# Altium footprint library ALTIUM_{TEX139}_HV-1PH-DCAC-R3.PcbLib: 57 footprints (part 3 of 4)
Each footprint in its own frame and in the unit in brackets; x right, y up, seen from the top. Pads: shape width x height; smd on the part's side, far side on the other; paste and mask are expansions set on the pad; w line width, h text height; cw(c..) or ccw(c..) is an arc to the next point about the centre after c.
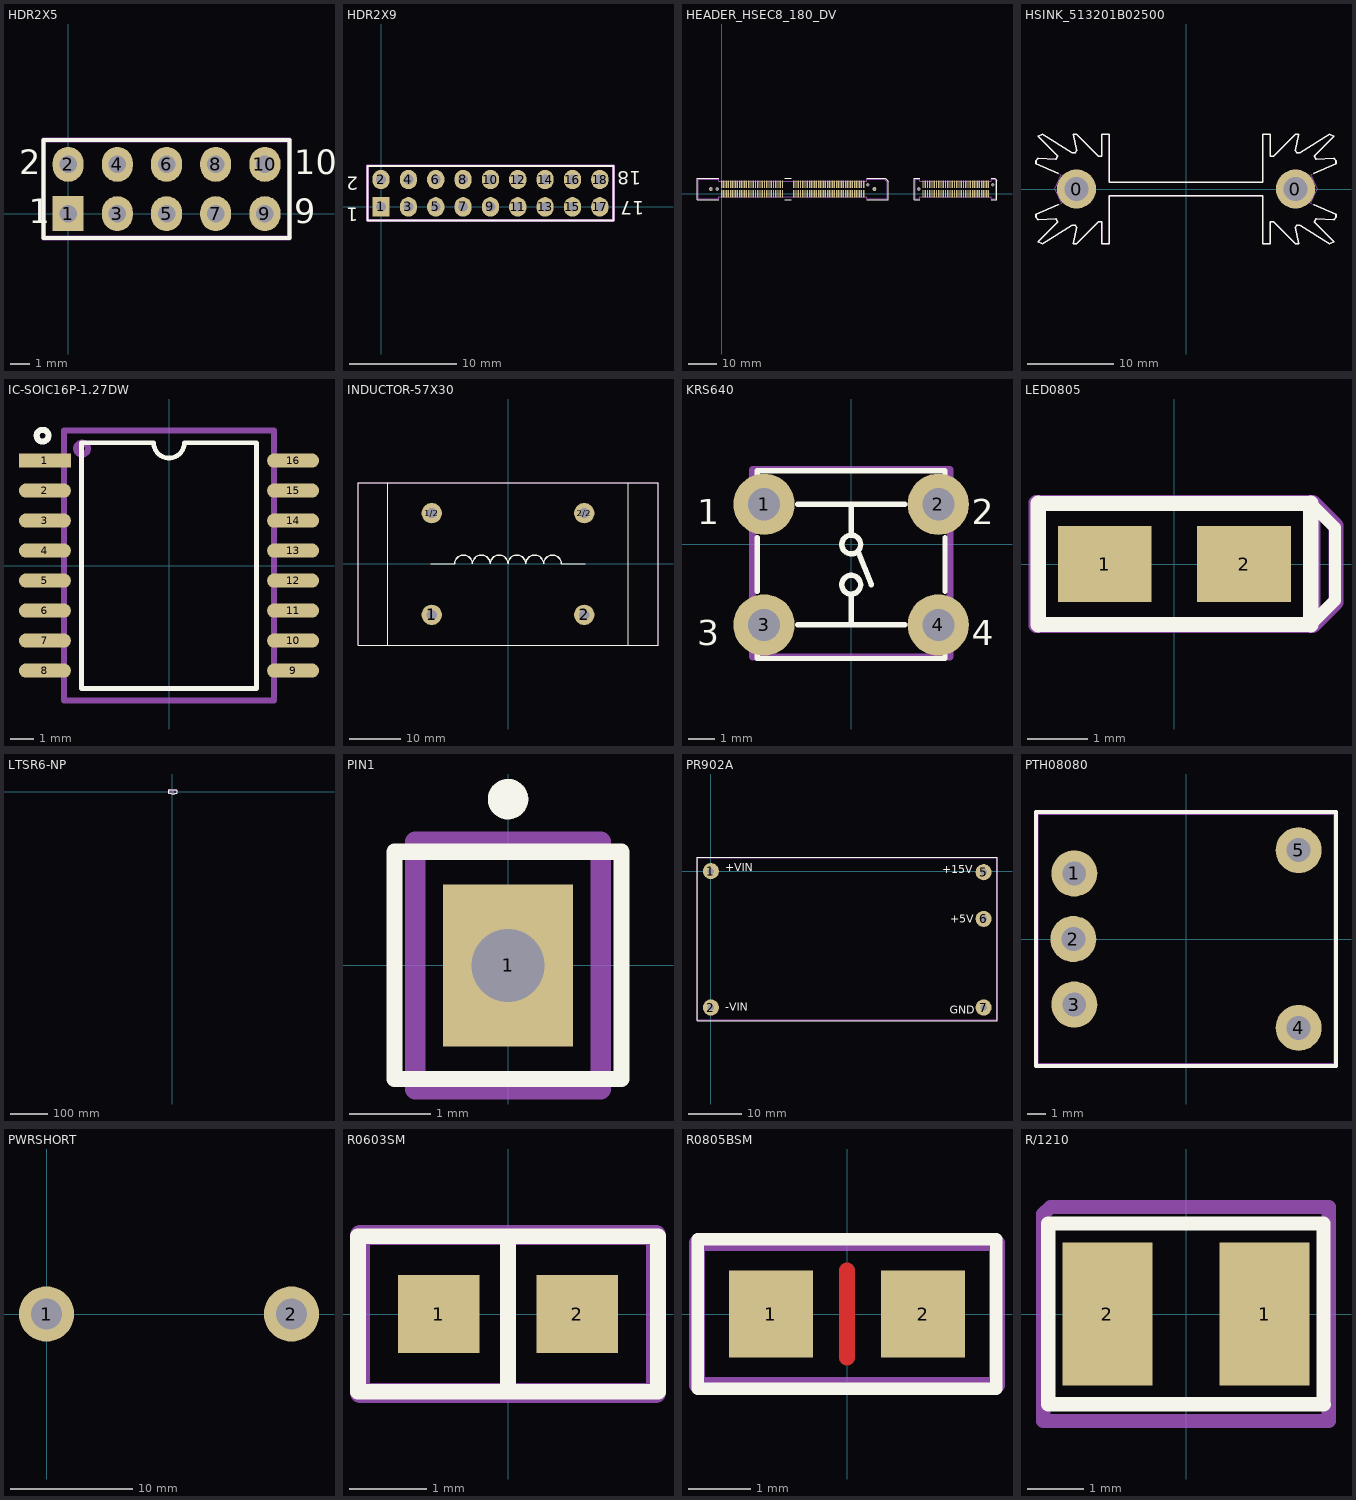
[diagram p2: the footprints below, top view; thin cyan lines are the x and y axes]

## HDR2X5 [mm]
pads (10):
  rect 1.6x1.8 hole 0.9: 1(0,0)
  oval 1.6x1.8 hole 0.9: 2(0,2.54) 3(2.54,0) 4(2.54,2.54) 5(5.08,0) 6(5.08,2.54) 7(7.62,0) 8(7.62,2.54) 9(10.16,0) 10(10.16,2.54)
Top Overlay:
  lines w0.2: -1.27,-1.27 -1.27,3.81 11.43,3.81 11.43,-1.27 -1.27,-1.27
  text "2" at -2.54,2.032 h1.27
  text "1" at -2.032,-0.508 h1.27
  text "9" at 11.684,-0.508 h1.27
  text "10" at 11.684,2.032 h1.27
Mechanical 5:
  lines w0.254: -1.27,-1.27 -1.27,3.81 11.43,3.81 11.43,-1.27 -1.27,-1.27
  text ".Designator" at 3.048,0.762 h1.52

## HDR2X9 [mm]
pads (18):
  rect 1.6x1.8 hole 0.9: 1(0,0)
  oval 1.6x1.8 hole 0.9: 2(0,2.54) 3(2.54,0) 4(2.54,2.54) 5(5.08,0) 6(5.08,2.54) 7(7.62,0) 8(7.62,2.54) 9(10.16,0) 10(10.16,2.54) 11(12.7,0) 12(12.7,2.54) 13(15.24,0) 14(15.24,2.54) 15(17.78,0) 16(17.78,2.54) 17(20.32,0) 18(20.32,2.54)
Top Overlay:
  lines w0.2: -1.27,-1.27 21.59,-1.27 21.59,3.81 -1.27,3.81 -1.27,-1.27
  text "18" at 24.157,3.319 h1.27
  text "17" at 24.457,0.519 h1.27
  text "1" at -2.143,-0.081 h1.27
  text "2" at -2.143,2.819 h1.27
Mechanical 5:
  lines w0.254: -1.27,-1.27 -1.27,3.81 21.59,3.81 21.59,-1.27 -1.27,-1.27
  text ".Designator" at 11.027,2.088 h1.52

## HEADER_HSEC8_180_DV [mm]
pads (186):
  rect 0.5x2.724 smd mask+0.076: 1(0,0) 2(0,3.4) 3(0.8,0) 4(0.8,3.4) 5(1.6,0) 6(1.6,3.4) 7(2.4,0) 8(2.4,3.4) 9(3.2,0) 10(3.2,3.4) 11(4,0) 12(4,3.4) 13(4.8,0) 14(4.8,3.4) 15(5.6,0) 16(5.6,3.4) 17(6.4,0) 18(6.4,3.4) 19(7.2,0) 20(7.2,3.4) 21(8,0) 22(8,3.4) 23(8.8,0) 24(8.8,3.4) 25(9.6,0) 26(9.6,3.4) 27(10.4,0) 28(10.4,3.4) 29(11.2,0) 30(11.2,3.4) 31(12,0) 32(12,3.4) 33(12.8,0) 34(12.8,3.4) 35(13.6,0) 36(13.6,3.4) 37(14.4,0) 38(14.4,3.4) 39(15.2,0) 40(15.2,3.4) 41(16,0) 42(16,3.4) 43(16.8,0) 44(16.8,3.4) 45(17.6,0) 46(17.6,3.4) 47(18.4,0) 48(18.4,3.4) 49(19.2,0) 50(19.2,3.4) 51(20,0) 52(20,3.4) 53(20.8,0) 54(20.8,3.4) 55(21.6,0) 56(21.6,3.4) 57(25.6,0) 58(25.6,3.4) 59(26.4,0) 60(26.4,3.4) 61(27.2,0) 62(27.2,3.4) 63(28,0) 64(28,3.4) 65(28.8,0) 66(28.8,3.4) 67(29.6,0) 68(29.6,3.4) 69(30.4,0) 70(30.4,3.4) 71(31.2,0) 72(31.2,3.4) 73(32,0) 74(32,3.4) 75(32.8,0) 76(32.8,3.4) 77(33.6,0) 78(33.6,3.4) 79(34.4,0) 80(34.4,3.4) 81(35.2,0) 82(35.2,3.4) 83(36,0) 84(36,3.4) 85(36.8,0) 86(36.8,3.4) 87(37.6,0) 88(37.6,3.4) 89(38.4,0) 90(38.4,3.4) 91(39.2,0) 92(39.2,3.4) 93(40,0) 94(40,3.4) 95(40.8,0) 96(40.8,3.4) 97(41.6,0) 98(41.6,3.4) 99(42.4,0) 100(42.4,3.4) 101(43.2,0) 102(43.2,3.4) 103(44,0) 104(44,3.4) 105(44.8,0) 106(44.8,3.4) 107(45.6,0) 108(45.6,3.4) 109(46.4,0) 110(46.4,3.4) 111(47.2,0) 112(47.2,3.4) 113(48,0) 114(48,3.4) 115(48.8,0) 116(48.8,3.4) 117(49.6,0) 118(49.6,3.4) 119(50.4,0) 120(50.4,3.4) 121(71.468,0) 122(71.468,3.4) 123(72.268,0) 124(72.268,3.4) 125(73.068,0) 126(73.068,3.4) 127(73.868,0) 128(73.868,3.4) 129(74.668,0) 130(74.668,3.4) 131(75.468,0) 132(75.468,3.4) 133(76.268,0) 134(76.268,3.4) 135(77.068,0) 136(77.068,3.4) 137(77.868,0) 138(77.868,3.4) 139(78.668,0) 140(78.668,3.4) 141(79.468,0) 142(79.468,3.4) 143(80.268,0) 144(80.268,3.4) 145(81.068,0) 146(81.068,3.4) 147(81.868,0) 148(81.868,3.4) 149(82.668,0) 150(82.668,3.4) 151(83.468,0) 152(83.468,3.4) 153(84.268,0) 154(84.268,3.4) 155(85.068,0) 156(85.068,3.4) 157(85.868,0) 158(85.868,3.4) 159(86.668,0) 160(86.668,3.4) 161(87.468,0) 162(87.468,3.4) 163(88.268,0) 164(88.268,3.4) 165(89.068,0) 166(89.068,3.4) 167(89.868,0) 168(89.868,3.4) 169(90.668,0) 170(90.668,3.4) 171(91.468,0) 172(91.468,3.4) 173(92.268,0) 174(92.268,3.4) 175(93.068,0) 176(93.068,3.4) 177(93.868,0) 178(93.868,3.4) 179(94.668,0) 180(94.668,3.4)
  round 0.025 hole 1.27 unplated mask+0.876: 181(-1.5,1.7) 182(51.9,3.2) 183(69.968,1.7) 184(96.168,3.2)
  round 1.348 hole 0.84: 185(-3.85,1.7) 186(54.25,1.7)
Top Overlay:
  lines w0.254: -1.1,-2.181 -8.756,-2.181 -8.756,5.581 -1.1,5.581 ; 22.481,-2.181 24.719,-2.181 ; 22.481,5.581 24.719,5.581 ; 51.5,-2.181 59.156,-2.181 59.156,4.438 58.013,5.581 51.5,5.581 ; 70.368,-2.181 68.387,-2.181 68.387,5.581 70.368,5.581 ; 95.733,-2.181 97.749,-2.181 97.749,4.819 96.987,5.581 95.758,5.581
Mechanical 1:
  lines w0.025: -8.375,-1.8 -1.1,-1.8 -1.1,-1.1 51.5,-1.1 51.5,-1.8 58.775,-1.8 58.775,4.225 57.8,5.2 51.5,5.2 51.5,4.5 -1.1,4.5 -1.1,5.2 -8.375,5.2 -8.375,-1.8 ; 68.768,-1.768 68.8,-1.8 70.368,-1.8 70.368,-1.1 95.768,-1.1 95.768,-1.8 97.368,-1.8 97.368,4.632 96.8,5.2 95.768,5.2 95.768,4.5 70.368,4.5 70.368,5.2 68.768,5.2 68.768,-1.768
Mechanical 5:
  lines w0.025: -8.375,-1.8 -1.1,-1.8 -1.1,-1.1 51.5,-1.1 51.5,-1.8 58.775,-1.8 58.775,4.225 57.8,5.2 51.5,5.2 51.5,4.5 -1.1,4.5 -1.1,5.2 -8.375,5.2 -8.375,-1.8 ; 68.768,-1.768 68.8,-1.8 70.368,-1.8 70.368,-1.1 95.768,-1.1 95.768,-1.8 97.368,-1.8 97.368,4.632 96.8,5.2 95.768,5.2 95.768,4.5 70.368,4.5 70.368,5.2 68.768,5.2 68.768,-1.768
  text ".Designator" at 25.146,2.413 h1.52

## HSINK_513201B02500 [mil] "Aavid"
height 2000
pads (2):
  round 180 hole 110.24: 0(-500,0) 0(500,0)
Top Overlay:
  lines w7: -584.44,-71.28 -685,-115 -685,-130 -675,-140 -595,-135 -585,-150 -675,-240 -655,-250 -520,-165 -505,-165 -500,-175 -515,-250 -500,-250 -400,-150 -385,-150 -384.37,-250 -350,-250 -350,-31 350,-31 350,-250 384.37,-250 385,-150 400,-150 500,-250 515,-250 500,-175 505,-165 520,-165 655,-250 675,-240 585,-150 595,-135 675,-140 685,-130 685,-115 584.44,-71.28 ; -584.19,71.17 -685,115 -685,130 -675,140 -595,135 -585,150 -675,240 -655,250 -520,165 -505,165 -500,175 -515,250 -500,250 -400,150 -385,150 -384.37,250 -350,250 -350,31 350,31 350,250 384.37,250 385,150 400,150 500,250 515,250 500,175 505,165 520,165 655,250 675,240 585,150 595,135 675,140 685,130 685,115 584.19,71.17
Mechanical 5:
  lines w5: -685,-130 -675,-140 -595,-135 -585,-150 -675,-240 -655,-250 -520,-165 -505,-165 -500,-175 -515,-250 -500,-250 -400,-150 -385,-150 -384.37,-250 -350,-250 -350,-31 350,-31 350,-250 384.37,-250 385,-150 400,-150 500,-250 515,-250 500,-175 505,-165 520,-165 655,-250 675,-240 585,-150 595,-135 675,-140 685,-130 685,-115 570,-65 600,0 570,65 685,115 685,130 675,140 595,135 585,150 675,240 655,250 520,165 505,165 500,175 515,250 500,250 400,150 385,150 384.37,250 350,250 350,31 -350,31 -350,250 -384.37,250 -385,150 -400,150 -500,250 -515,250 -500,175 -505,165 -520,165 -655,250 -675,240 -585,150 -595,135 -675,140 -685,130 -685,115 -570,65 -600,0 -570,-65 -685,-115 -685,-130
  text ".Designator" at 27,19 h40
3D body: height 2000, standoff 0, extent 0,-250 685,250
3D body: height 2000, standoff 0, extent -685,-250 0,250
3D body: height 44, standoff -156, extent 455,-44.92 544.64,44.91
3D body: height 44, standoff -156, extent -544.64,-44.91 -454.99,44.92

## IC-SOIC16P-1.27DW [mm]
pads (16):
  rect 2.2x0.6 smd: 1(-5.25,4.445)
  oval 2.2x0.6 smd: 2(-5.25,3.175) 3(-5.25,1.905) 4(-5.25,0.635) 5(-5.25,-0.635) 6(-5.25,-1.905) 7(-5.25,-3.175) 8(-5.25,-4.445) 9(5.25,-4.445) 10(5.25,-3.175) 11(5.25,-1.905) 12(5.25,-0.635) 13(5.25,0.635) 14(5.25,1.905) 15(5.25,3.175) 16(5.25,4.445)
Top Overlay:
  circle w0.254: c-5.35,5.5 r0.25
  lines w0.2: -0.703,5.2 -3.7,5.2 -3.7,-5.2 3.7,-5.2 3.7,5.2 0.703,5.2 ; -0.651,5.2 ccw(c0,5.2) 0.65,5.2
Mechanical 5:
  circle w0.254: c-3.679,4.953 r0.25
  lines w0.254: -5.08,4.445 -4.953,4.445 ; -4.445,-5.715 4.445,-5.715 4.445,5.715 -4.445,5.715 -4.445,-5.715
  text ".Designator" at -0.588,1.874 h1.52

## INDUCTOR-57X30 [mm]
pads (4):
  round 4 hole 2: 1(-15,-10) 1/2(-15,10) 2(15,-10) 2/2(15,10)
Top Overlay:
  lines w0.2: -23.6,-16 -23.6,16 ; -15.2,0 -10.5,0 ; 10.5,0 15.2,0 ; 23.65,-16 23.65,16 ; -29.5,-16 -29.5,16 29.5,16 29.5,-16 -29.5,-16
  lines w0.254: -10.5,0 cw(c-8.75,0) -7,0 cw(c-5.25,0) -3.5,0 cw(c-1.75,0) 0,0 cw(c1.75,0) 3.5,0 cw(c5.25,0) 7,0 cw(c8.75,0) 10.5,0
Mechanical 5:
  lines w0.2: -29.5,-16 29.5,-16 29.5,16 -29.5,16 -29.5,-16
  text ".Designator" at 1.016,-1.143 h1.52

## KRS640 [mm]
pads (4):
  round 2.286 hole 1.2: 1(-3.25,1.5) 2(3.25,1.5) 3(-3.25,-3) 4(3.25,-3)
Top Overlay:
  circle w0.2: c0,0 r0.35
  circle w0.2: c0,-1.5 r0.35
  lines w0.2: -3.5,-4.1 -3.5,-4.25 3.5,-4.25 3.5,-4.1 ; -3.5,-1.75 -3.5,0.25 ; -3.5,2.6 -3.5,2.75 3.5,2.75 3.5,2.6 ; -2,-3 2,-3 ; -2,1.5 2,1.5 ; 0,-3 0,-1.85 ; 0,0.35 0,1.5 ; 0.25,-0.25 0.75,-1.5 ; 3.5,-1.75 3.5,0.25
  text "2" at 4.5,0.75 h0.94
  text "4" at 4.5,-3.75 h0.94
  text "1" at -5.75,0.75 h0.94
  text "3" at -5.75,-3.75 h0.94
Mechanical 5:
  lines w0.254: -3.683,-4.191 -3.683,2.794 3.683,2.794 3.683,-4.191 -3.683,-4.191
  text ".Designator" at -1.682,-1.19 h1.52

## LED0805 [mm]
pads (2):
  rect 1.55x1.25 smd: 1(-1.15,0) 2(1.15,0)
Top Overlay:
  lines w0.2: 2.25,-1 2.65,-0.6 2.65,0.6 2.25,1
  lines w0.25: -2.25,-1 0.35,-1 2.25,-1 ; -2.25,1 0.35,1 2.25,1
  lines w0.254: -2.25,-1 -2.25,1 ; 2.25,-1 2.25,1
Mechanical 5:
  lines w0.254: 2.286,-1.016 -2.286,-1.016 -2.286,1.016 2.286,1.016 ; 2.286,-1.016 2.286,1.016 ; 2.286,-1.016 2.667,-0.635 2.667,0.635 2.286,1.016
  text ".Designator" at -0.813,-0.483 h1.02

## LTSR6-NP [mm] "TH, 10-Leads, Body 10x22.2mm"
height 24
pads (10):
  rect 1.9x1.9 hole 1.4: 1(-0.73,5.85)
  round 1.9 hole 1.4: 2(1.81,5.85) 3(4.35,5.85) 4(4.35,-6.85) 5(1.81,-6.85) 6(-0.73,-6.85)
  round 1.4 hole 0.9: 7(-8.35,2.358) 8(-8.35,0.453) 9(-8.35,-1.452) 10(-8.35,-3.357)
Top Overlay:
  region: -3,5.2 -3,4.5 -2.1,4.5 -2.1,5.2
  lines w0.2: -2.246,-5.494 -2.246,-4.8 -10.19,-4.8 -10.117,3.519 cw(c-9.127,3.51) -9.127,4.5 -1.655,4.5 ; -2.24,-5.5 -1.655,-5.5 -1.655,-5.65 ; 0.195,-5.65 0.195,-5.5 0.885,-5.5 0.885,-5.65 ; 0.195,4.65 0.195,4.5 0.885,4.5 0.885,4.65 ; 2.735,-5.65 2.735,-5.5 3.425,-5.5 3.425,-5.65 ; 2.735,4.65 2.735,4.5 3.425,4.5 3.425,4.65 ; 5.275,-5.65 5.275,-5.5 5.86,-5.5 ; 5.275,4.65 5.275,4.5 10.947,4.5 cw(c10.947,3.51) 11.937,3.519 12.01,-4.8 5.866,-4.8 5.866,-5.494
Mechanical 5:
  drawing of 374 lines, arcs and shapes, not listed
  text ".Designator" at 4.064,-1.397 h1.02
3D body: height 24, standoff -3.5, extent -10.19,-7.253 12.01,6.247

## PIN1 [mm]
pads (1):
  rect 1.6x2 hole 0.9: 1(0,0)
Top Overlay:
  circle w0.25: c0,2.05 r0.125
  lines w0.2: -1.4,-1.4 1.4,-1.4 1.4,1.4 -1.4,1.4 -1.4,-1.4
Mechanical 5:
  lines w0.254: -1.143,-1.524 1.143,-1.524 1.143,1.524 -1.143,1.524 -1.143,-1.524
  text ".Designator" at 1.524,-0.762 h1.52

## PR902A [mm]
pads (5):
  round 3 hole 1.2: 1(0,0) 2(0,-25.4) 5(50.8,-0.2) 6(50.8,-8.89) 7(50.8,-25.4)
Top Overlay:
  lines w0.2: -2.6,-27.88 53.28,-27.88 53.28,2.6 -2.6,2.6 -2.6,-27.88
  text "+VIN" at 2.667,0 h1.5
  text "-VIN" at 2.667,-26.035 h1.5
  text "+15V" at 43.053,-0.381 h1.5
  text "+5V" at 44.577,-9.652 h1.5
  text "GND" at 44.45,-26.543 h1.5
Mechanical 5:
  lines w0.254: -2.54,-27.813 53.213,-27.813 53.213,2.54 -2.54,2.54 -2.54,-27.813
  text ".Designator" at 18.669,-11.938 h1.52

## PTH08080 [mm]
pads (5):
  round 2.5 hole 1.3: 1(-6.07,3.56) 2(-6.12,0) 3(-6.07,-3.56) 4(6.12,-4.825) 5(6.12,4.825)
Top Overlay:
  lines w0.2: -8.15,-6.9 -8.15,6.9 8.15,6.9 8.15,-6.9 -8.15,-6.9
Mechanical 5:
  lines w0.254: -8.128,-6.858 8.128,-6.858 8.128,6.858 -8.128,6.858 -8.128,-6.858
  text ".Designator" at 1.985,-2.382 h1.52

## PWRSHORT [mm]
pads (2):
  round 4.5 hole 2.5: 1(0,0) 2(20,0)

## R0603SM [mm]
pads (2):
  rect 1.05x1 smd: 1(-0.89,0) 2(0.89,0)
Top Overlay:
  lines w0.2: 0,-1 0,1 ; -1.93,-1 -1.93,1 1.93,1 1.93,0.05 1.93,-0.44 1.93,-1 -1.93,-1
Mechanical 5:
  lines w0.254: -1.905,-1.016 1.905,-1.016 1.905,1.016 -1.905,1.016 -1.905,-1.016
  text ".Designator" at -1.397,-0.635 h1.02

## R0805BSM [mm]
pads (2):
  rect 1.35x1.4 smd: 1(-1.225,0) 2(1.225,0)
Top Layer:
  lines w0.254: 0,-0.7 0,0.7
Top Overlay:
  lines w0.2: -2.4,-1.2 -2.4,-0.3 -2.4,1.2 0,1.2 2.4,1.2 2.4,-0.3 2.4,-1.2 0,-1.2 -2.4,-1.2
Mechanical 9:
  lines w0.254: -2.413,-1.143 2.413,-1.143 2.413,1.143 -2.413,1.143 -2.413,-1.143
  text ".Designator" at 1.372,0.559 h1.02

## R/1210 [mm]
pads (2):
  rect 1.6x2.54 smd: 1(1.4,0) 2(-1.4,0)
Top Overlay:
  lines w0.25: -0.837,1.613 2.45,1.613 2.45,-1.607
  lines w0.254: -0.837,1.613 -2.45,1.613 -2.45,-1.607 -0.693,-1.607 2.45,-1.607
Mechanical 5:
  lines w0.254: -2.54,-1.905 -2.54,1.778 -2.413,1.905 2.54,1.905 2.54,-1.905 -2.54,-1.905
  text ".Designator" at -2.188,-0.818 h1.52